# EAGLE library part SYNAPSE-RF200P (library Railstars)
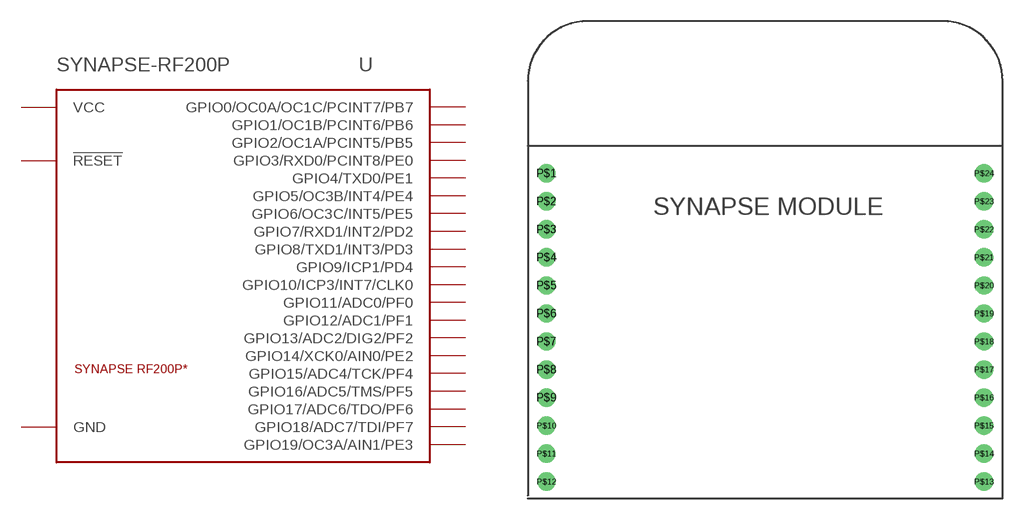
[diagram p35: symbol with the pads of ZIGBEE-SOCKET; footprint ZIGBEE-SOCKET]

Designator prefix -

## SYNAPSE-RF200P  [ZIGBEE-SOCKET]
P$1  GND  sup
P$2  GPIO0/OC0A/OC1C/PCINT7/PB7
P$3  GPIO1/OC1B/PCINT6/PB6
P$4  GPIO2/OC1A/PCINT5/PB5
P$5  GPIO3/RXD0/PCINT8/PE0
P$6  GPIO4/TXD0/PE1
P$7  GPIO5/OC3B/INT4/PE4
P$8  GPIO6/OC3C/INT5/PE5
P$9  GPIO7/RXD1/INT2/PD2
P$10  GPIO8/TXD1/INT3/PD3
P$11  GPIO9/ICP1/PD4
P$12  GPIO10/ICP3/INT7/CLK0
P$13  GPIO11/ADC0/PF0
P$14  GPIO12/ADC1/PF1
P$15  GPIO13/ADC2/DIG2/PF2
P$16  GPIO14/XCK0/AIN0/PE2
P$17  GPIO15/ADC4/TCK/PF4
P$18  GPIO16/ADC5/TMS/PF5
P$19  GPIO17/ADC6/TDO/PF6
P$20  GPIO18/ADC7/TDI/PF7
P$21  VCC  sup
P$22  GPIO19/OC3A/AIN1/PE3
P$23  !RESET
P$24  GND  sup

## Footprint ZIGBEE-SOCKET (pad centres in mm)
drill 0.8: P$1 -15.6,0; P$2 -15.6,-2; P$3 -15.6,-4; P$4 -15.6,-6; P$5 -15.6,-8; P$6 -15.6,-10; P$7 -15.6,-12; P$8 -15.6,-14; P$9 -15.6,-16; P$10 -15.6,-18; P$11 -15.6,-20; P$12 -15.6,-22; P$13 15.6,-22; P$14 15.6,-20; P$15 15.6,-18; P$16 15.6,-16; P$17 15.6,-14; P$18 15.6,-12; P$19 15.6,-10; P$20 15.6,-8; P$21 15.6,-6; P$22 15.6,-4; P$23 15.6,-2; P$24 15.6,0